# EAGLE library part PIN_3X6 (library QADT)
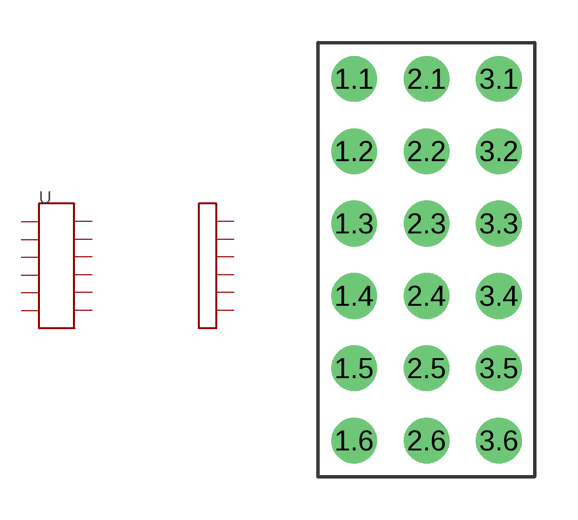
[diagram p6: symbol with the pads of PIN_3X6; footprint PIN_3X6]

Designator prefix -

## PIN_3X6  [PIN_3X6]
1.1  1.1
1.2  1.2
1.3  1.3
1.4  1.4
1.5  1.5
1.6  1.6
2.1  2.1
2.2  2.2
2.3  2.3
2.4  2.4
2.5  2.5
2.6  2.6
3.1  3.1
3.2  3.2
3.3  3.3
3.4  3.4
3.5  3.5
3.6  3.6

## Footprint PIN_3X6 (pad centres in mm)
drill 1.067: 1.1 0,5.08; 1.2 0,2.54; 1.3 0,0; 1.4 0,-2.54; 1.5 0,-5.08; 1.6 0,-7.62; 2.1 2.54,5.08; 2.2 2.54,2.54; 2.3 2.54,0; 2.4 2.54,-2.54; 2.5 2.54,-5.08; 2.6 2.54,-7.62; 3.1 5.08,5.08; 3.2 5.08,2.54; 3.3 5.08,0; 3.4 5.08,-2.54; 3.5 5.08,-5.08; 3.6 5.08,-7.62